# Altium schematic symbol library Connectors.SchLib: 17 symbols
Pins are listed as number, name and electrical type; pins without a type are passive.

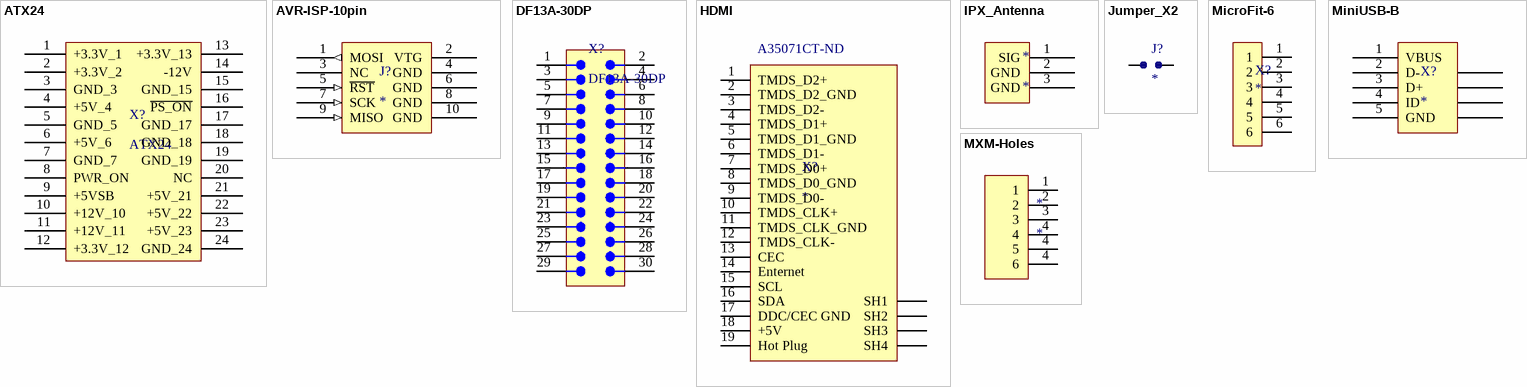
[diagram p0: symbols ATX24 to MXM-Holes]

## ATX24
designator X?
pins: 1 +3.3V_1, 2 +3.3V_2, 3 GND_3, 4 +5V_4, 5 GND_5, 6 +5V_6, 7 GND_7, 8 PWR_ON, 9 +5VSB, 10 +12V_10, 11 +12V_11, 12 +3.3V_12, 13 +3.3V_13, 14 -12V, 15 GND_15, 16 ~{PS_ON}, 17 GND_17, 18 GND_18, 19 GND_19, 20 NC, 21 +5V_21, 22 +5V_22, 23 +5V_23, 24 GND_24 (power)

## AVR-ISP-10pin
designator J?
footprint IDC2.54-V10C (Connector; IDC, PCB Transition - 2 Rows, Thru-Hole; 10 Position; Vertical; Pitch 2.54 mm; Body 18.00 x 6.1 x 7.45 mm (LxWxH), Kinked Contacts)
pins: 1 MOSI (out), 2 VTG (power), 3 NC, 4 GND (power), 5 ~{RST} (in), 6 GND (power), 7 SCK (in), 8 GND (power), 9 MISO (in), 10 GND (power)

## DF13A-30DP
designator X?
footprint DF13A-30DP
pins: 1, 2, 3, 4, 5, 6, 7, 8, 9, 10, 11, 12, 13, 14, 15, 16, 17, 18, 19, 20, 21, 22, 23, 24, 25, 26, 27, 28, 29, 30

## HDMI
designator X?  Supplier Part Number 1: A35071CT-ND
Supplier 1: Digi-Key
footprint HDMI
pins: 1 TMDS_D2+ "TMDS Data2+", 2 TMDS_D2_GND "TMDS Data2 Shield", 3 TMDS_D2- "TMDS Data2?", 4 TMDS_D1+ "TMDS Data1+", 5 TMDS_D1_GND "TMDS Data1 Shield", 6 TMDS_D1- "TMDS Data1?", 7 TMDS_D0+ "TMDS Data0+", 8 TMDS_D0_GND "TMDS Data0 Shield", 9 TMDS_D0- "TMDS Data0?", 10 TMDS_CLK+ "TMDS Clock+", 11 TMDS_CLK_GND "TMDS Clock Shield", 12 TMDS_CLK- "TMDS Clock?", 13 CEC, 14 Enternet "Optional, HDMI 1.4+ with Ethernet", 15 SCL "I?C Serial Clock for DDC", 16 SDA "I?C Serial Data Line for DDC", 17 DDC/CEC GND "DDC/CEC/HEC Ground", 18 +5V "+5 V (max 50 mA)", 19 Hot Plug "Hot Plug detect (all versions) and HEC Data+ (optional, HDMI 1.4+ with Ethernet)", SH1, SH2, SH3, SH4

## IPX_Antenna
designator *
footprint IPX-M (A microminiature RF coaxial connector)
pins: 1 SIG, 2 GND, 3 GND

## Jumper_X2
designator J?
pins: 1, 2

## MicroFit-6
designator X?
Single Row 3.00mm pitch Molex Power Connector
footprint MOLEXMICORFIT-6-3mm
pins: 1, 2, 3, 4, 5, 6

## MiniUSB-B
designator X?
footprint USB/SM0.8-6H5 (Connector; USB2.0, Type B, SM; 5 Position; Right Angle)
pins: 1 VBUS (power), 2 D-, 3 D+, 4 ID, 5 GND (power), 6 MH, 7 MH, 8 MH, 9 MH

## MXM-Holes
designator *
footprint MXM Connector - helper
pins: 1, 2, 3, 4, 4 5, 4 6

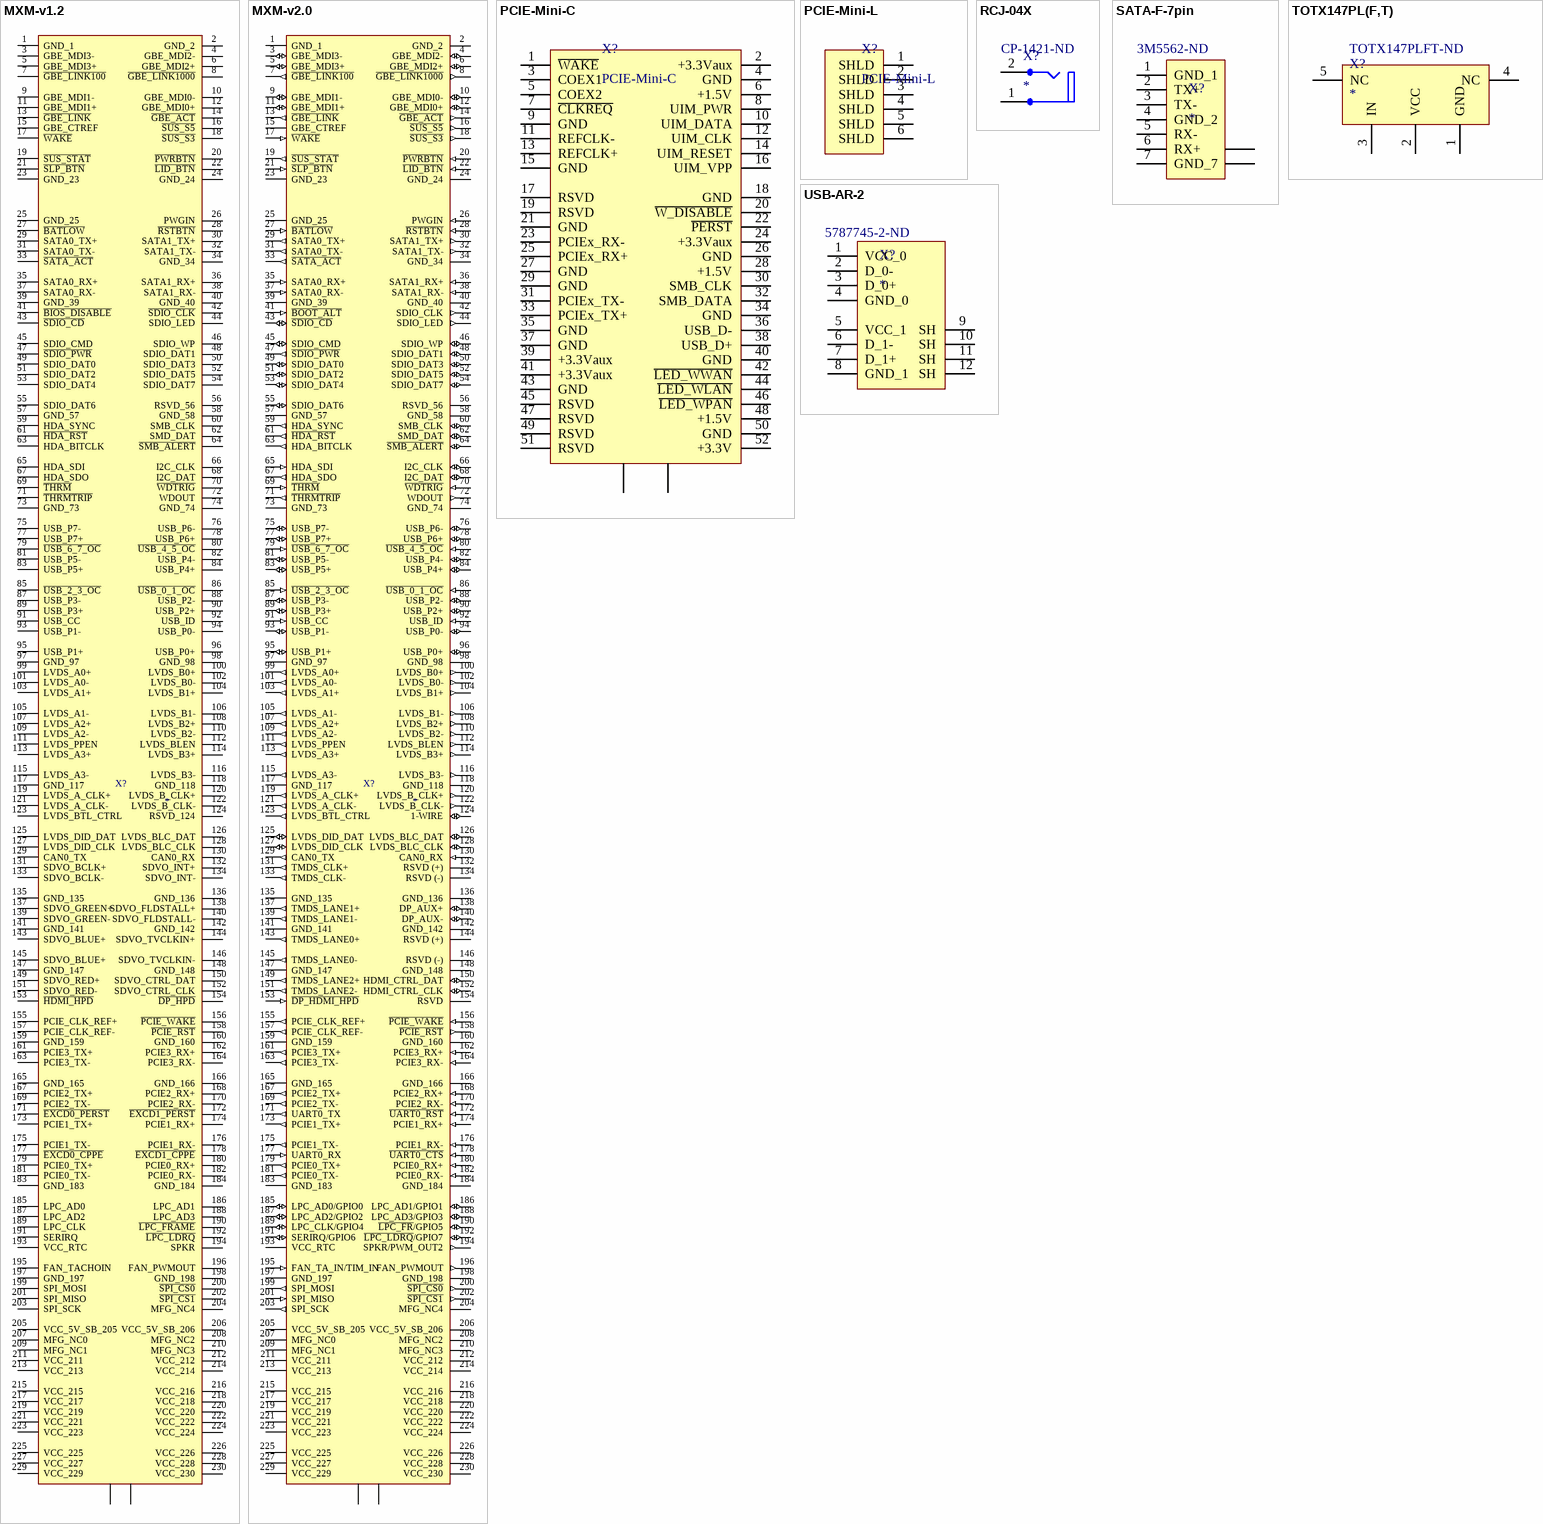
[diagram p1: symbols MXM-v1.2 to USB-AR-2]

## MXM-v1.2
designator X?
MXM Connector v1.2
footprint MXM Connector
pins: 1 GND_1, 2 GND_2, 3 GBE_MDI3-, 4 GBE_MDI2-, 5 GBE_MDI3+, 6 GBE_MDI2+, 7 ~{GBE_LINK100}, 8 ~{GBE_LINK1000}, 9 GBE_MDI1-, 10 GBE_MDI0-, 11 GBE_MDI1+, 12 GBE_MDI0+, 13 ~{GBE_LINK}, 14 ~{GBE_ACT}, 15 GBE_CTREF, 16 ~{SUS_S5}, 17 ~{WAKE}, 18 ~{SUS_S3}, 19 ~{SUS_STAT}, 20 ~{PWRBTN}, 21 ~{SLP_BTN}, 22 ~{LID_BTN}, 23 GND_23, 24 GND_24, 25 GND_25, 26 PWGIN, 27 ~{BATLOW}, 28 ~{RSTBTN}, 29 SATA0_TX+, 30 SATA1_TX+, 31 SATA0_TX-, 32 SATA1_TX-, 33 ~{SATA_ACT}, 34 GND_34, 35 SATA0_RX+, 36 SATA1_RX+, 37 SATA0_RX-, 38 SATA1_RX-, 39 GND_39, 40 GND_40, 41 ~{BIOS_DISABLE}, 42 ~{SDIO_CLK}, 43 ~{SDIO_CD}, 44 SDIO_LED, 45 SDIO_CMD, 46 SDIO_WP, 47 ~{SDIO_PWR}, 48 SDIO_DAT1, 49 SDIO_DAT0, 50 SDIO_DAT3, 51 SDIO_DAT2, 52 SDIO_DAT5, 53 SDIO_DAT4, 54 SDIO_DAT7, 55 SDIO_DAT6, 56 RSVD_56, 57 GND_57, 58 GND_58, 59 HDA_SYNC, 60 SMB_CLK, 61 ~{HDA_RST}, 62 SMD_DAT, 63 HDA_BITCLK, 64 ~{SMB_ALERT}, 65 HDA_SDI, 66 I2C_CLK, 67 HDA_SDO, 68 I2C_DAT, 69 ~{THRM}, 70 ~{WDTRIG}, 71 ~{THRMTRIP}, 72 WDOUT, 73 GND_73, 74 GND_74, 75 USB_P7-, 76 USB_P6-, 77 USB_P7+, 78 USB_P6+, 79 ~{USB_6_7_OC}, 80 ~{USB_4_5_OC}, 81 USB_P5-, 82 USB_P4-, 83 USB_P5+, 84 USB_P4+, 85 ~{USB_2_3_OC}, 86 ~{USB_0_1_OC}, 87 USB_P3-, 88 USB_P2-, 89 USB_P3+, 90 USB_P2+, 91 USB_CC, 92 USB_ID, 93 USB_P1-, 94 USB_P0-, 95 USB_P1+, 96 USB_P0+, 97 GND_97, 98 GND_98, 99 LVDS_A0+, 100 LVDS_B0+, 101 LVDS_A0-, 102 LVDS_B0-, 103 LVDS_A1+, 104 LVDS_B1+, 105 LVDS_A1-, 106 LVDS_B1-, 107 LVDS_A2+, 108 LVDS_B2+, 109 LVDS_A2-, 110 LVDS_B2-, 111 LVDS_PPEN, 112 LVDS_BLEN, 113 LVDS_A3+, 114 LVDS_B3+, 115 LVDS_A3-, 116 LVDS_B3-, 117 GND_117, 118 GND_118, 119 LVDS_A_CLK+, 120 LVDS_B_CLK+, 121 LVDS_A_CLK-, 122 LVDS_B_CLK-, 123 LVDS_BTL_CTRL, 124 RSVD_124, 125 LVDS_DID_DAT, 126 LVDS_BLC_DAT, 127 LVDS_DID_CLK, 128 LVDS_BLC_CLK, 129 CAN0_TX, 130 CAN0_RX, 131 SDVO_BCLK+, 132 SDVO_INT+, 133 SDVO_BCLK-, 134 SDVO_INT-, 135 GND_135, 136 GND_136, 137 SDVO_GREEN+, 138 SDVO_FLDSTALL+, 139 SDVO_GREEN-, 140 SDVO_FLDSTALL-, 141 GND_141, 142 GND_142, 143 SDVO_BLUE+, 144 SDVO_TVCLKIN+, 145 SDVO_BLUE+, 146 SDVO_TVCLKIN-, 147 GND_147, 148 GND_148, 149 SDVO_RED+, 150 SDVO_CTRL_DAT, 151 SDVO_RED-, 152 SDVO_CTRL_CLK, 153 ~{HDMI_HPD}, 154 ~{DP_HPD}, 155 PCIE_CLK_REF+, 156 ~{PCIE_WAKE}, 157 PCIE_CLK_REF-, 158 ~{PCIE_RST}, 159 GND_159, 160 GND_160, 161 PCIE3_TX+, 162 PCIE3_RX+, 163 PCIE3_TX-, 164 PCIE3_RX-, 165 GND_165, 166 GND_166, 167 PCIE2_TX+, 168 PCIE2_RX+, 169 PCIE2_TX-, 170 PCIE2_RX-, 171 ~{EXCD0_PERST}, 172 ~{EXCD1_PERST}, 173 PCIE1_TX+, 174 PCIE1_RX+, 175 PCIE1_TX-, 176 PCIE1_RX-, 177 ~{EXCD0_CPPE}, 178 ~{EXCD1_CPPE}, 179 PCIE0_TX+, 180 PCIE0_RX+, 181 PCIE0_TX-, 182 PCIE0_RX-, 183 GND_183, 184 GND_184, 185 LPC_AD0, 186 LPC_AD1, 187 LPC_AD2, 188 LPC_AD3, 189 LPC_CLK, 190 ~{LPC_FRAME}, 191 SERIRQ, 192 ~{LPC_LDRQ}, 193 VCC_RTC, 194 SPKR, 195 FAN_TACHOIN, 196 FAN_PWMOUT, 197 GND_197, 198 GND_198, 199 SPI_MOSI, 200 ~{SPI_CS0}, 201 SPI_MISO, 202 ~{SPI_CS1}, 203 SPI_SCK, 204 MFG_NC4, 205 VCC_5V_SB_205, 206 VCC_5V_SB_206, 207 MFG_NC0, 208 MFG_NC2, 209 MFG_NC1, 210 MFG_NC3, 211 VCC_211, 212 VCC_212, 213 VCC_213, 214 VCC_214, 215 VCC_215, 216 VCC_216, 217 VCC_217, 218 VCC_218, 219 VCC_219, 220 VCC_220, 221 VCC_221, 222 VCC_222, 223 VCC_223, 224 VCC_224, 225 VCC_225, 226 VCC_226, 227 VCC_227, 228 VCC_228, 229 VCC_229, 230 VCC_230, B0 BRACKET, B1 BRACKET

## MXM-v2.0
designator X?
MXM Connector v2.0
footprint MXM Connector
pins: 1 GND_1, 2 GND_2 (power), 3 GBE_MDI3- (io), 4 GBE_MDI2- (io), 5 GBE_MDI3+ (io), 6 GBE_MDI2+ (io), 7 ~{GBE_LINK100} (out), 8 ~{GBE_LINK1000} (out), 9 GBE_MDI1- (io), 10 GBE_MDI0- (io), 11 GBE_MDI1+ (io), 12 GBE_MDI0+ (io), 13 ~{GBE_LINK} (out), 14 ~{GBE_ACT} (out), 15 GBE_CTREF, 16 ~{SUS_S5} (out), 17 ~{WAKE} (in), 18 ~{SUS_S3} (out), 19 ~{SUS_STAT} (out), 20 ~{PWRBTN} (in), 21 ~{SLP_BTN} (in), 22 ~{LID_BTN} (in), 23 GND_23 (power), 24 GND_24 (power), 25 GND_25 (power), 26 PWGIN (in), 27 ~{BATLOW} (in), 28 ~{RSTBTN} (in), 29 SATA0_TX+ (out), 30 SATA1_TX+ (out), 31 SATA0_TX- (out), 32 SATA1_TX- (out), 33 ~{SATA_ACT} (out), 34 GND_34 (power), 35 SATA0_RX+ (in), 36 SATA1_RX+ (in), 37 SATA0_RX- (in), 38 SATA1_RX- (in), 39 GND_39 (power), 40 GND_40 (power), 41 ~{BOOT_ALT} (in), 42 SDIO_CLK (out), 43 ~{SDIO_CD} (io), 44 SDIO_LED (out) "max 1 mA", 45 SDIO_CMD (io) "OD/PP", 46 SDIO_WP (io), 47 ~{SDIO_PWR} (out), 48 SDIO_DAT1 (io), 49 SDIO_DAT0 (io), 50 SDIO_DAT3 (io), 51 SDIO_DAT2 (io), 52 SDIO_DAT5 (io), 53 SDIO_DAT4 (io), 54 SDIO_DAT7 (io), 55 SDIO_DAT6 (io), 56 RSVD_56, 57 GND_57 (power), 58 GND_58 (power), 59 HDA_SYNC (out), 60 SMB_CLK (io), 61 ~{HDA_RST} (out), 62 SMD_DAT (io), 63 HDA_BITCLK (out), 64 ~{SMB_ALERT} (io), 65 HDA_SDI (in), 66 I2C_CLK (io), 67 HDA_SDO (out), 68 I2C_DAT (io), 69 ~{THRM} (in), 70 ~{WDTRIG} (in) ">= 10 mA", 71 ~{THRMTRIP} (out), 72 WDOUT (out) "max 5 mA", 73 GND_73 (power), 74 GND_74 (power), 75 USB_P7- (io), 76 USB_P6- (io), 77 USB_P7+ (io), 78 USB_P6+ (io), 79 ~{USB_6_7_OC} (in) ">= 5 mA", 80 ~{USB_4_5_OC} (in) ">= 5 mA", 81 USB_P5- (io), 82 USB_P4- (io), 83 USB_P5+ (io), 84 USB_P4+ (io), 85 ~{USB_2_3_OC} (in) ">= 5 mA", 86 ~{USB_0_1_OC} (in) ">= 5 mA", 87 USB_P3- (io), 88 USB_P2- (io), 89 USB_P3+ (io), 90 USB_P2+ (io), 91 USB_CC (in), 92 USB_ID (in), 93 USB_P1- (io), 94 USB_P0- (io), 95 USB_P1+ (io), 96 USB_P0+ (io), 97 GND_97 (power), 98 GND_98 (power), 99 LVDS_A0+ (out), 100 LVDS_B0+ (out), 101 LVDS_A0- (out), 102 LVDS_B0- (out), 103 LVDS_A1+ (out), 104 LVDS_B1+ (out), 105 LVDS_A1- (out), 106 LVDS_B1- (out), 107 LVDS_A2+ (out), 108 LVDS_B2+ (out), 109 LVDS_A2- (out), 110 LVDS_B2- (out), 111 LVDS_PPEN (out) "max 1 mA", 112 LVDS_BLEN (out) "max 1 mA", 113 LVDS_A3+ (out), 114 LVDS_B3+ (out), 115 LVDS_A3- (out), 116 LVDS_B3- (out), 117 GND_117 (power), 118 GND_118 (power), 119 LVDS_A_CLK+ (out), 120 LVDS_B_CLK+ (out), 121 LVDS_A_CLK- (out), 122 LVDS_B_CLK- (out), 123 LVDS_BTL_CTRL (out), 124 1-WIRE (io), 125 LVDS_DID_DAT (io), 126 LVDS_BLC_DAT (io), 127 LVDS_DID_CLK (io), 128 LVDS_BLC_CLK (io), 129 CAN0_TX (out), 130 CAN0_RX (in), 131 TMDS_CLK+ (out), 132 RSVD (+), 133 TMDS_CLK- (out), 134 RSVD (-), 135 GND_135 (power), 136 GND_136 (power), 137 TMDS_LANE1+ (out), 138 DP_AUX+ (io), 139 TMDS_LANE1- (out), 140 DP_AUX- (io), 141 GND_141 (power), 142 GND_142 (power), 143 TMDS_LANE0+ (out), 144 RSVD (+), 145 TMDS_LANE0- (out), 146 RSVD (-), 147 GND_147 (power), 148 GND_148 (power), 149 TMDS_LANE2+ (out), 150 HDMI_CTRL_DAT (io), 151 TMDS_LANE2- (out), 152 HDMI_CTRL_CLK (io), 153 ~{DP_HDMI_HPD} (in), 154 RSVD, 155 PCIE_CLK_REF+ (out), 156 ~{PCIE_WAKE} (in) ">= 5 mA", 157 PCIE_CLK_REF- (out), 158 ~{PCIE_RST} (out) "max 1 mA", 159 GND_159 (power), 160 GND_160 (power), 161 PCIE3_TX+ (out), 162 PCIE3_RX+ (in), 163 PCIE3_TX- (out), 164 PCIE3_RX- (in), 165 GND_165 (power), 166 GND_166 (power), 167 PCIE2_TX+ (out), 168 PCIE2_RX+ (in), 169 PCIE2_TX- (out), 170 PCIE2_RX- (in), 171 UART0_TX (out) "max 1 mA", 172 ~{UART0_RST} (in) "max 1 mA", 173 PCIE1_TX+ (out), 174 PCIE1_RX+ (in), 175 PCIE1_TX- (out), 176 PCIE1_RX- (in), 177 UART0_RX (in) ">= 5 mA", 178 ~{UART0_CTS} (in) ">= 5 mA", 179 PCIE0_TX+ (out), 180 PCIE0_RX+ (in), 181 PCIE0_TX- (out), 182 PCIE0_RX- (in), 183 GND_183 (power), 184 GND_184 (power), 185 LPC_AD0/GPIO0 (io), 186 LPC_AD1/GPIO1 (io), 187 LPC_AD2/GPIO2 (io), 188 LPC_AD3/GPIO3 (io), 189 LPC_CLK/GPIO4 (io), 190 ~{LPC_FR}/GPIO5 (io), 191 SERIRQ/GPIO6 (io), 192 ~{LPC_LDRQ}/GPIO7 (io), 193 VCC_RTC (power), 194 SPKR/PWM_OUT2 (out), 195 FAN_TA_IN/TIM_IN (in), 196 FAN_PWMOUT (out), 197 GND_197 (power), 198 GND_198 (power), 199 SPI_MOSI (out), 200 ~{SPI_CS0} (out), 201 SPI_MISO (in), 202 ~{SPI_CS1} (out), 203 SPI_SCK (out), 204 MFG_NC4, 205 VCC_5V_SB_205 (power), 206 VCC_5V_SB_206 (power), 207 MFG_NC0, 208 MFG_NC2, 209 MFG_NC1, 210 MFG_NC3, 211 VCC_211 (power), 212 VCC_212 (power), 213 VCC_213 (power), 214 VCC_214 (power), 215 VCC_215 (power), 216 VCC_216 (power), 217 VCC_217 (power), 218 VCC_218 (power), 219 VCC_219 (power), 220 VCC_220 (power), 221 VCC_221 (power), 222 VCC_222 (power), 223 VCC_223 (power), 224 VCC_224 (power), 225 VCC_225 (power), 226 VCC_226 (power), 227 VCC_227 (power), 228 VCC_228 (power), 229 VCC_229 (power), 230 VCC_230 (power), B0 BRACKET, B1 BRACKET

## PCIE-Mini-C
designator X?
PCIE Mini Card Connector (Slim)
footprint PCIE-Mini-C
pins: 1 ~{WAKE}, 2 +3.3Vaux, 3 COEX1, 4 GND, 5 COEX2, 6 +1.5V, 7 ~{CLKREQ}, 8 UIM_PWR, 9 GND, 10 UIM_DATA, 11 REFCLK-, 12 UIM_CLK, 13 REFCLK+, 14 UIM_RESET, 15 GND, 16 UIM_VPP, 17 RSVD, 18 GND, 19 RSVD, 20 ~{W_DISABLE}, 21 GND, 22 ~{PERST}, 23 PCIEx_RX-, 24 +3.3Vaux, 25 PCIEx_RX+, 26 GND, 27 GND, 28 +1.5V, 29 GND, 30 SMB_CLK, 31 PCIEx_TX-, 32 SMB_DATA, 33 PCIEx_TX+, 34 GND, 35 GND, 36 USB_D-, 37 GND, 38 USB_D+, 39 +3.3Vaux, 40 GND, 41 +3.3Vaux, 42 ~{LED_WWAN}, 43 GND, 44 ~{LED_WLAN}, 45 RSVD, 46 ~{LED_WPAN}, 47 RSVD, 48 +1.5V, 49 RSVD, 50 GND, 51 RSVD, 52 +3.3V, 53, 54

## PCIE-Mini-L
designator X?
PCIE Mini Card Latch (Slim)
footprint PCIE-MINI-L
pins: 1 SHLD, 2 SHLD, 3 SHLD, 4 SHLD, 5 SHLD, 6 SHLD

## RCJ-04X
designator X?  Supplier Part Number 1: CP-1421-ND
RCJ Jack, Right Angle, PCB Mount; Supplier 1: Digi-Key
footprint RCJ-04X (RCJ Jack, Right Angle, PCB Mount)
pins: 1, 2

## SATA-F-7pin
designator X?  Supplier Part Number 1: 3M5562-ND
Supplier 1: Digi-Key
footprint SATA_F_7pin
pins: 1 GND_1, 2 TX+, 3 TX-, 4 GND_2, 5 RX-, 6 RX+, 7 GND_7, 8, 9

## TOTX147PL(F,T)
designator X?  Supplier Part Number 1: TOTX147PLFT-ND
Fiber Optic Transmitting Module; Supplier 1: Digi-Key
footprint TOTX147PL (Fiber Optic Transmitting Module)
pins: 1 GND, 2 VCC, 3 IN, 4 NC, 5 NC

## USB-AR-2
designator X?  Supplier Part Number 1: 5787745-2-ND
USB 2.0 Type A Receptacle, 2 Ports Stacked; Supplier 1: Digi-Key
footprint 5787745-2 (USB2.0 Type A Receptacle, 2 Ports Stacked)
pins: 1 VCC_0, 2 D_0-, 3 D_0+, 4 GND_0, 5 VCC_1, 6 D_1-, 7 D_1+, 8 GND_1, 9 SH, 10 SH, 11 SH, 12 SH